# Altium schematic symbol library Compute Module .SchLib: 15 symbols
Pins are listed as number, name and electrical type; pins without a type are passive.

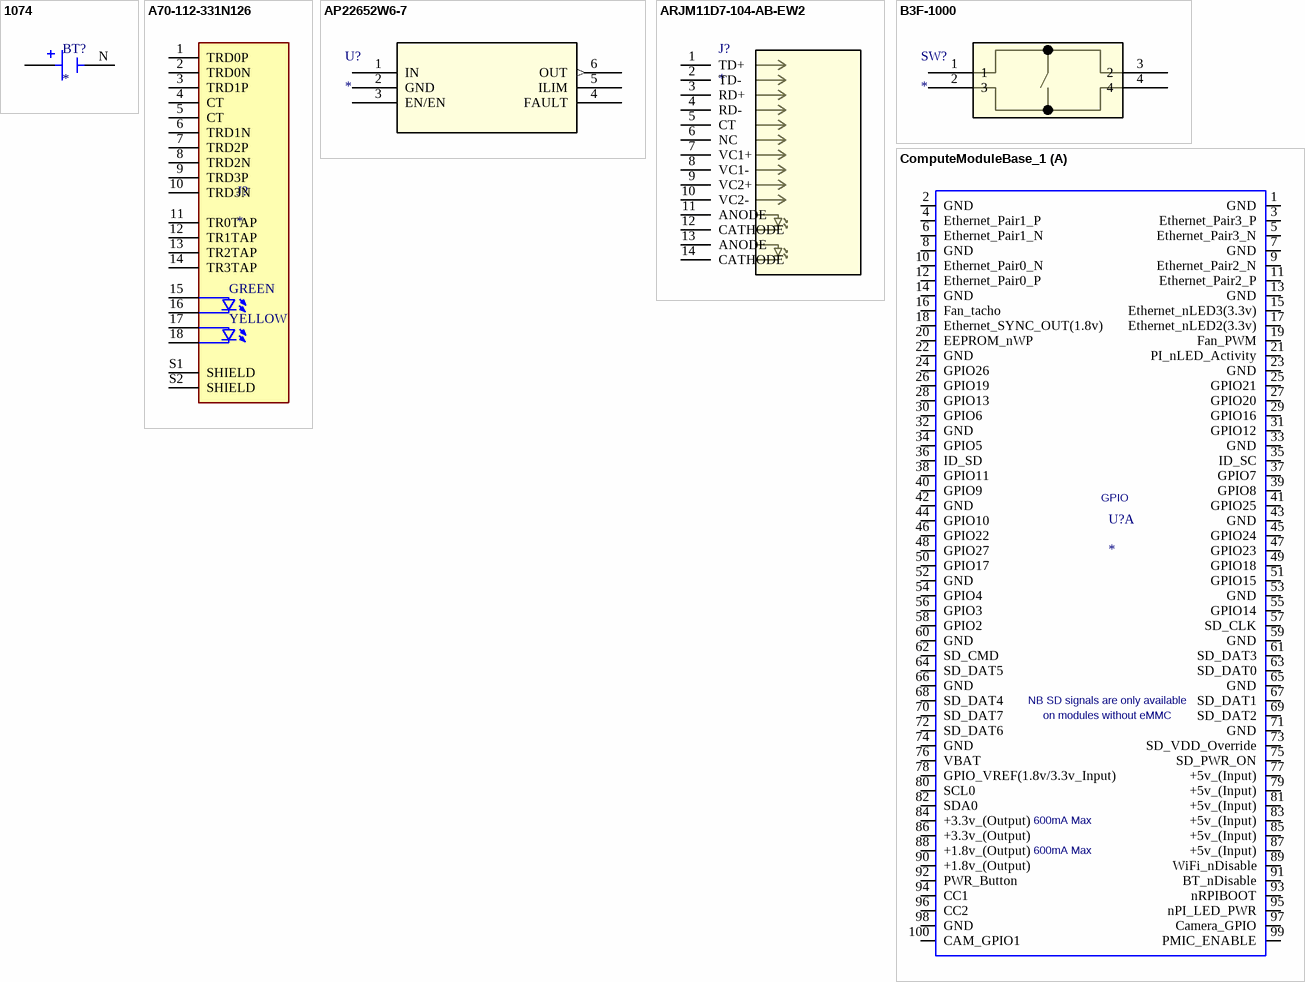
[diagram p0: symbols 1074 to ComputeModuleBase_1]

## 1074
designator BT?
MP: 1074; Availability: Unavailable; Price: None; Package: None; Value: *
footprint BAT_1074
pins: N NEG, P_1 POS, P_2 POS

## A70-112-331N126
designator J?
Ethernet RPI; MP: A70-112-331N126; Package: None; Availability: Unavailable; Value: *; Price: None
footprint EDAC_A70-112-331N126
pins: 1 TRD0P, 2 TRD0N, 3 TRD1P, 4 CT, 5 CT, 6 TRD1N, 7 TRD2P, 8 TRD2N, 9 TRD3P, 10 TRD3N, 11 TR0TAP, 12 TR1TAP, 13 TR2TAP, 14 TR3TAP, 15 Anode, 16 Cathode, 17 Anode, 18 Cathode, S1 SHIELD "Sheild", S2 SHIELD "Sheild"
text: GREEN; YELLOW

## AP22652W6-7
designator U?
No Description Available; Mfr_Name: Diodes Inc; RefDes: RefDes; Type: Type
footprint SOIC_52W6-7_DIO
pins: 1 IN, 2 GND (power), 3 EN/EN, 4 FAULT, 5 ILIM, 6 OUT (out)

## ARJM11D7-104-AB-EW2
designator J?
Ethernet; Mfr_Name: Abracon; RefDes: RefDes; Type: Type
footprint CONN_ARJM11D7-104-AB-EW2_ABR
pins: 1 TD+, 2 TD-, 3 RD+, 4 RD-, 5 CT, 6 NC, 7 VC1+, 8 VC1-, 9 VC2+, 10 VC2-, 11 ANODE, 12 CATHODE, 13 ANODE, 14 CATHODE

## B3F-1000
designator SW?
No Description Available; Mfr_Name: Omron; RefDes: RefDes; Type: Type
footprint SW_B3F-1000_OMR
pins: 1, 2 3, 3 2, 4

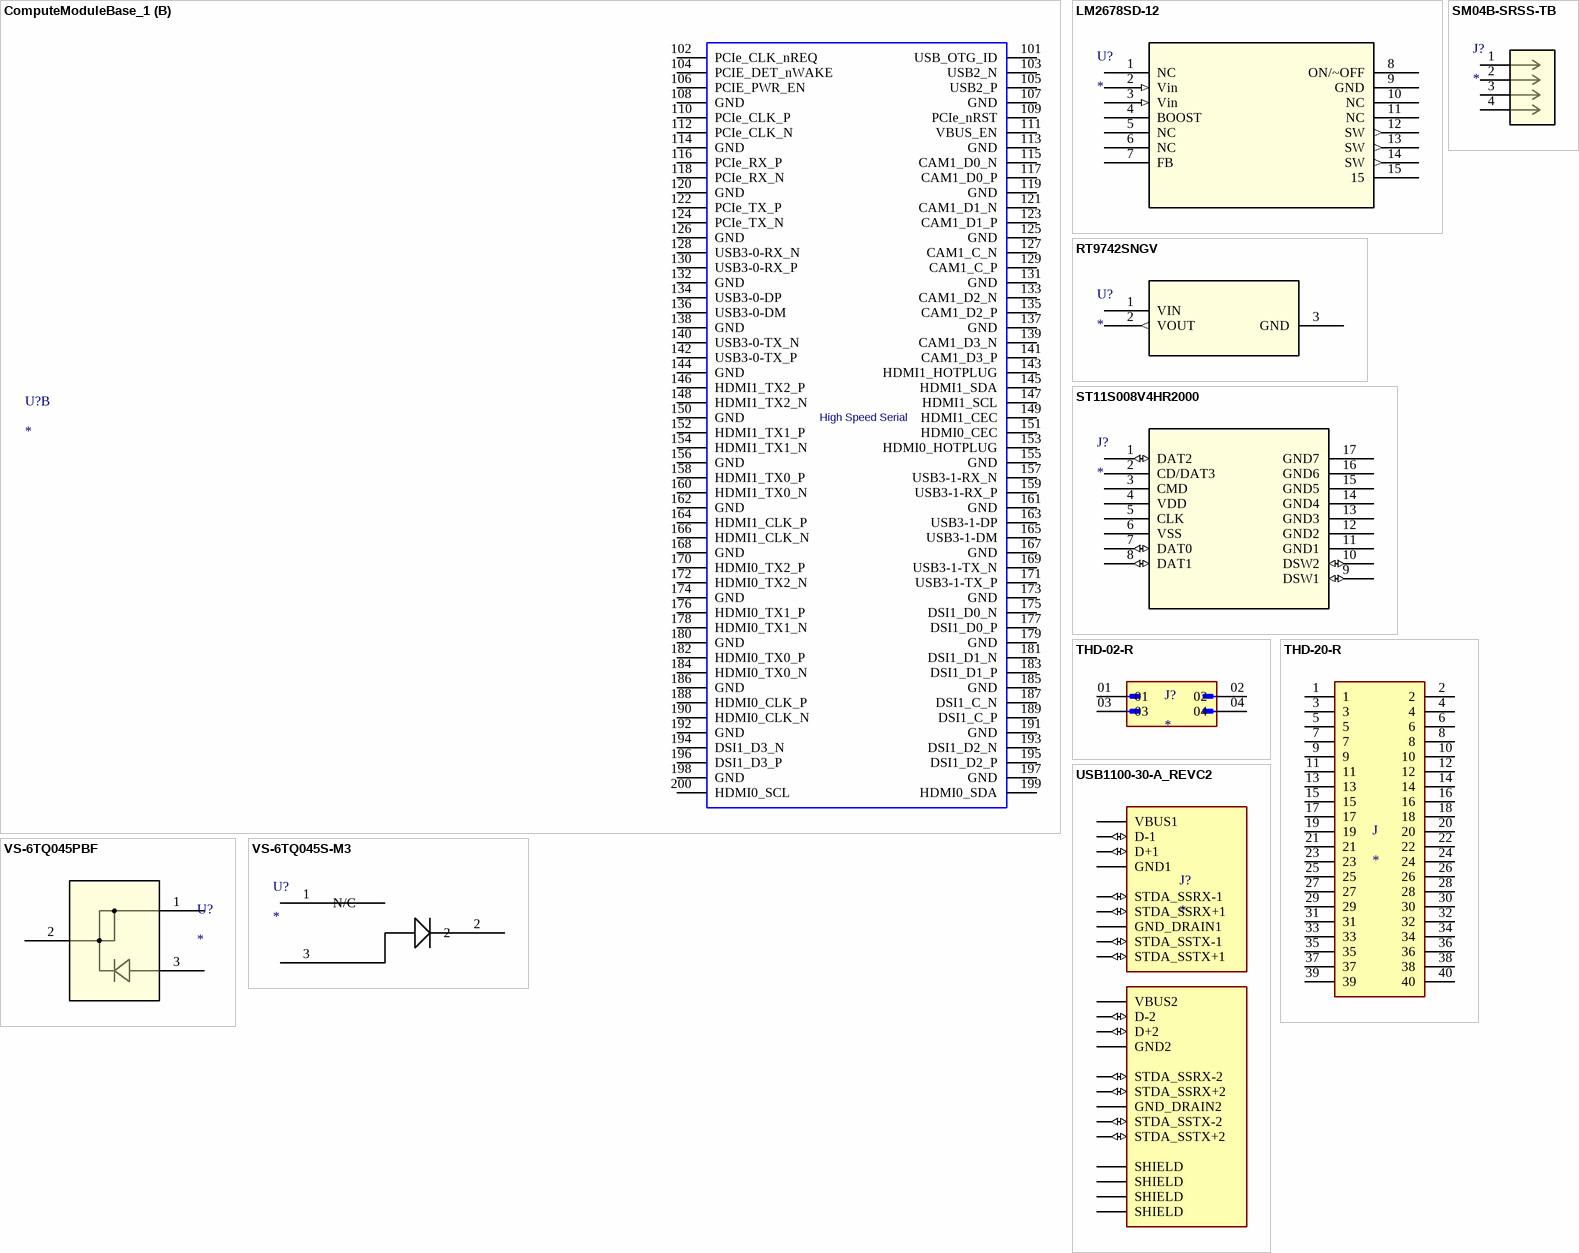
[diagram p1: symbols ComputeModuleBase_1 to VS-6TQ045S-M3]

## ComputeModuleBase_1
designator U?
Compute Module Holder
footprint Raspberry-Pi-Compute-Module (Compute Module Base)
part A pins: 1 GND, 2 GND, 3 Ethernet_Pair3_P, 4 Ethernet_Pair1_P, 5 Ethernet_Pair3_N, 6 Ethernet_Pair1_N, 7 GND, 8 GND, 9 Ethernet_Pair2_N, 10 Ethernet_Pair0_N, 11 Ethernet_Pair2_P, 12 Ethernet_Pair0_P, 13 GND, 14 GND, 15 Ethernet_nLED3(3.3v), 16 Fan_tacho, 17 Ethernet_nLED2(3.3v), 18 Ethernet_SYNC_OUT(1.8v), 19 Fan_PWM, 20 EEPROM_nWP, 21 PI_nLED_Activity, 22 GND, 23 GND, 24 GPIO26, 25 GPIO21, 26 GPIO19, 27 GPIO20, 28 GPIO13, 29 GPIO16, 30 GPIO6, 31 GPIO12, 32 GND, 33 GND, 34 GPIO5, 35 ID_SC, 36 ID_SD, 37 GPIO7, 38 GPIO11, 39 GPIO8, 40 GPIO9, 41 GPIO25, 42 GND, 43 GND, 44 GPIO10, 45 GPIO24, 46 GPIO22, 47 GPIO23, 48 GPIO27, 49 GPIO18, 50 GPIO17, 51 GPIO15, 52 GND, 53 GND, 54 GPIO4, 55 GPIO14, 56 GPIO3, 57 SD_CLK, 58 GPIO2, 59 GND, 60 GND, 61 SD_DAT3, 62 SD_CMD, 63 SD_DAT0, 64 SD_DAT5, 65 GND, 66 GND, 67 SD_DAT1, 68 SD_DAT4, 69 SD_DAT2, 70 SD_DAT7, 71 GND, 72 SD_DAT6, 73 SD_VDD_Override, 74 GND, 75 SD_PWR_ON, 76 VBAT, 77 +5v_(Input), 78 GPIO_VREF(1.8v/3.3v_Input), 79 +5v_(Input), 80 SCL0, 81 +5v_(Input), 82 SDA0, 83 +5v_(Input), 84 +3.3v_(Output), 85 +5v_(Input), 86 +3.3v_(Output), 87 +5v_(Input), 88 +1.8v_(Output), 89 WiFi_nDisable, 90 +1.8v_(Output), 91 BT_nDisable, 92 PWR_Button, 93 nRPIBOOT, 94 CC1, 95 nPI_LED_PWR, 96 CC2, 97 Camera_GPIO, 98 GND, 99 PMIC_ENABLE, 100 CAM_GPIO1
part B pins: 101 USB_OTG_ID, 102 PCIe_CLK_nREQ, 103 USB2_N, 104 PCIE_DET_nWAKE, 105 USB2_P, 106 PCIE_PWR_EN, 107 GND, 108 GND, 109 PCIe_nRST, 110 PCIe_CLK_P, 111 VBUS_EN, 112 PCIe_CLK_N, 113 GND, 114 GND, 115 CAM1_D0_N, 116 PCIe_RX_P, 117 CAM1_D0_P, 118 PCIe_RX_N, 119 GND, 120 GND, 121 CAM1_D1_N, 122 PCIe_TX_P, 123 CAM1_D1_P, 124 PCIe_TX_N, 125 GND, 126 GND, 127 CAM1_C_N, 128 USB3-0-RX_N, 129 CAM1_C_P, 130 USB3-0-RX_P, 131 GND, 132 GND, 133 CAM1_D2_N, 134 USB3-0-DP, 135 CAM1_D2_P, 136 USB3-0-DM, 137 GND, 138 GND, 139 CAM1_D3_N, 140 USB3-0-TX_N, 141 CAM1_D3_P, 142 USB3-0-TX_P, 143 HDMI1_HOTPLUG, 144 GND, 145 HDMI1_SDA, 146 HDMI1_TX2_P, 147 HDMI1_SCL, 148 HDMI1_TX2_N, 149 HDMI1_CEC, 150 GND, 151 HDMI0_CEC, 152 HDMI1_TX1_P, 153 HDMI0_HOTPLUG, 154 HDMI1_TX1_N, 155 GND, 156 GND, 157 USB3-1-RX_N, 158 HDMI1_TX0_P, 159 USB3-1-RX_P, 160 HDMI1_TX0_N, 161 GND, 162 GND, 163 USB3-1-DP, 164 HDMI1_CLK_P, 165 USB3-1-DM, 166 HDMI1_CLK_N, 167 GND, 168 GND, 169 USB3-1-TX_N, 170 HDMI0_TX2_P, 171 USB3-1-TX_P, 172 HDMI0_TX2_N, 173 GND, 174 GND, 175 DSI1_D0_N, 176 HDMI0_TX1_P, 177 DSI1_D0_P, 178 HDMI0_TX1_N, 179 GND, 180 GND, 181 DSI1_D1_N, 182 HDMI0_TX0_P, 183 DSI1_D1_P, 184 HDMI0_TX0_N, 185 GND, 186 GND, 187 DSI1_C_N, 188 HDMI0_CLK_P, 189 DSI1_C_P, 190 HDMI0_CLK_N, 191 GND, 192 GND, 193 DSI1_D2_N, 194 DSI1_D3_N, 195 DSI1_D2_P, 196 DSI1_D3_P, 197 GND, 198 GND, 199 HDMI0_SDA, 200 HDMI0_SCL
part A text: GPIO; NB SD signals are only available; on modules without eMMC; 600mA Max
part B text: High Speed Serial

## LM2678SD-12
designator U?
No Description Available; Mfr_Name: Texas Instruments; Type: LM2678SD-12; RefDes: RefDes
footprint SRC14A
pins: 1 NC, 2 Vin (in), 3 Vin (in), 4 BOOST, 5 NC, 6 NC, 7 FB, 8 ON/~OFF, 9 GND, 10 NC, 11 NC, 12 SW (out), 13 SW (out), 14 SW (out), 15

## RT9742SNGV
designator U?
HDMI Power; Mfr_Name: Richtek Technology; RefDes: RefDes; Type: Type
footprint SOT_42SNGV_RIT
footprint SOT_42SNGV_RIT-L
footprint SOT_42SNGV_RIT-M
pins: 1 VIN, 2 VOUT (out), 3 GND (power)

## SM04B-SRSS-TB
designator J?
Fan Connector; Mfr_Name: JST; RefDes: RefDes; Type: Type
footprint CONN_SM04B-SRSS-TB_JST
pins: 1, 2, 3, 4

## ST11S008V4HR2000
designator J?
SD Card; Mfr_Name: JAE Electronics; RefDes: RefDes; Type: Type
footprint ST11S008V4HR2000_JAE
pins: 1 DAT2 (io), 2 CD/DAT3, 3 CMD, 4 VDD (power), 5 CLK, 6 VSS (power), 7 DAT0 (io), 8 DAT1 (io), 9 DSW1 (io), 10 DSW2 (io), 11 GND1 (power), 12 GND2 (power), 13 GND3 (power), 14 GND4 (power), 15 GND5 (power), 16 GND6 (power), 17 GND7 (power)

## THD-02-R
designator J?
THD - Valcon 2.54mm Pitch Dual Row Pin Header - Fast Stock; MP: THD-02-R; Check_prices: https://www.snapeda.com/parts/THD-02-R/Valcon/view-part/4777189/?ref=eda; Package: None; Purchase-URL: https://pricing.snapeda.com/search/part/THD-02-R/?ref=eda; Value: *; Availability: No availability data; SnapEDA_Link: https://www.snapeda.com/parts/THD-02-R/Valcon/view-part/4777189/?ref=snap; Price: None; MF: Valcon
footprint VALCON_THD-02-R (4 Pins Header for Ethernet)
pins: 01, 02, 03, 04

## THD-20-R
designator J
THD - Valcon 2.54mm Pitch Dual Row Pin Header - Fast Stock; MP: THD-20-R; Availability: Unavailable; MF: Valcon; SnapEDA_Link: https://www.snapeda.com/parts/THD-20-R/Valcon/view-part/4784545/?ref=snap; Value: *; Package: None; Toby_UK-Purchase-URL: https://snapeda.com/shop?store=Toby+UK&id=4784545; Price: None
footprint VALCON_THD-20-R
pins: 1, 2, 3, 4, 5, 6, 7, 8, 9, 10, 11, 12, 13, 14, 15, 16, 17, 18, 19, 20, 21, 22, 23, 24, 25, 26, 27, 28, 29, 30, 31, 32, 33, 34, 35, 36, 37, 38, 39, 40

## USB1100-30-A_REVC2
designator J?
USB-A (USB TYPE-A), Stacked USB 3.2 Gen 1 (USB 3.1 Gen 1, Superspeed (USB 3.0)) Receptacle Connector 18 Position Through Hole, Right Angle; MP: USB1100-30-A; MF: Global Connector Technology; SnapEDA_Link: https://www.snapeda.com/parts/USB1100-30-A/Global+Connector+Technology/view-part/?ref=snap; Purchase-URL: https://pricing.snapeda.com/search/part/USB1100-30-A/?ref=eda; Package: None; Value: *; Check_prices: https://www.snapeda.com/parts/USB1100-30-A/Global+Connector+Technology/view-part/?ref=eda; Availability: In Stock; Price: None
footprint GCT_USB1100-30-A_REVC2
pins: 1 VBUS1 (power), 2 D-1 (io), 3 D+1 (io), 4 GND1 (power), 5 STDA_SSRX-1 (io), 6 STDA_SSRX+1 (io), 7 GND_DRAIN1 (power), 8 STDA_SSTX-1 (io), 9 STDA_SSTX+1 (io), 10 VBUS2 (power), 11 D-2 (io), 12 D+2 (io), 13 GND2 (power), 14 STDA_SSRX-2 (io), 15 STDA_SSRX+2 (io), 16 GND_DRAIN2 (power), 17 STDA_SSTX-2 (io), 18 STDA_SSTX+2 (io), SH1 SHIELD, SH2 SHIELD, SH3 SHIELD, SH4 SHIELD

## VS-6TQ045PBF
designator U?
No Description Available; Mfr_Name: Vishay
footprint TO220AC_VIS
pins: 1, 2, 3

## VS-6TQ045S-M3
designator U?
No Description Available; Mfr_Name: Vishay; RefDes: RefDes; Type: Type
footprint DPAK_045S-M3_VIS
footprint DPAK_045S-M3_VIS-L
footprint DPAK_045S-M3_VIS-M
pins: 1 N/C, 2, 3 ANODE